# Altium schematic symbol library 28Pins_Project.SchLib: 38 symbols (part 1 of 2)
Pins are listed as number, name and electrical type; pins without a type are passive.

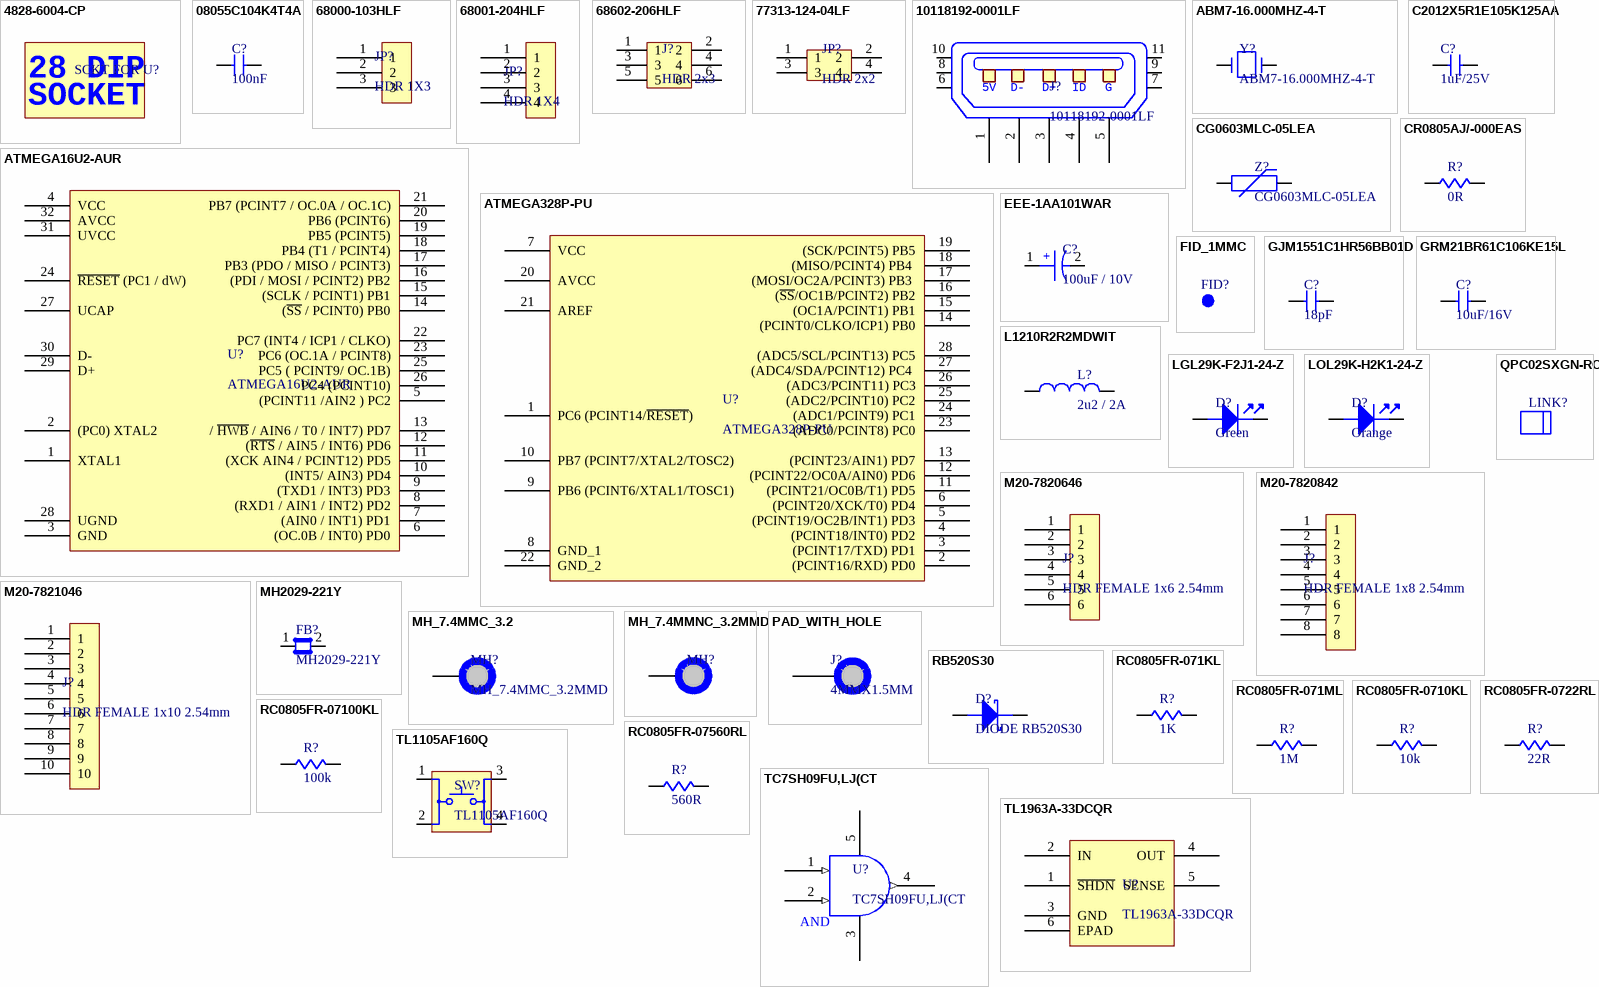
[diagram p0: symbols 4828-6004-CP to TL1963A-33DCQR]

## 4828-6004-CP
designator SCKT FOR U?, comment 28-DIP Socket  (value not drawn)
Conn DIP Socket SKT 28 POS 2.54mm Solder ST Thru-Hole; Manufacturer: 3M; Manufacturer Part Number: 4828-6004-CP; Number of Contacts: 28; Gender: Female; Current Rating: 1A; Voltage Rating (AC): 100V; Insulation Resistance: 5GR; Row Spacing: 15.24mm; Supplier 1: Digi-Key; Supplier Part Number 1: 3M5481-ND; RoHS: Yes; Category: IC and Component Sockets; Stock 1: 2128; Pricing 1: 1=0.84000, 10=0.74300, 25=0.69920, 50=0.67000, 100=0.64080, 250=0.58256, 500=0.52432, 1000=0.46605, 2500=0.42236 (USD); Mount: Through Hole; Contact Material: Bronze; Contact Plating: Tin,Nickel; Housing Material: Polyester; Insulation Material: Polyester; Min Operating Temperature: -25°C; Max Operating Temperature: 85°C; Packaging: Rail/Tube; Number of Rows: 2; Termination: Solder; Orientation: Straight; Package Quantity: 14; Number of Positions: 28; Connector Type: DIP; Series: 4800; Contact Type: Type D; Length: 35.43mm; Width: 17.78mm; Pitch: 2.54mm; Depth: 17.78mm; Radiation Hardening: No; Lead Free: Lead Free; Flammability Rating: UL94 V-0; ComponentLink1URL: https://datasheet.ciiva.com/15188/getdatasheetpartid-335067-15188348.pdf?src-supplier=Verical; ComponentLink1Description: https://datasheet.ciiva.com/15188/getdatasheetpartid-335067-15188348.pdf?src-supplier=Verical; ComponentLink2URL: https://datasheet.ciiva.com/768/ts1099-768368.pdf?src-supplier=Digi-Key; ComponentLink2Description: https://datasheet.ciiva.com/768/ts1099-768368.pdf?src-supplier=Digi-Key; ComponentLink3URL: https://datasheet.ciiva.com/8006/ts1099-8006727.pdf?src-supplier=Element14; ComponentLink3Description: https://datasheet.ciiva.com/8006/ts1099-8006727.pdf?src-supplier=Element14
footprint 28_DIP_7.62MM_SOCKET
text: 28 DIP; SOCKET

## 08055C104K4T4A
designator C?, comment 100nF
CAPACITOR CERAMIC, 0.1UF, 50V, X7R, 10%, 0805; Capacitance:0.1µF; Capacitance Tolerance:± 10%; Capacitor Case Style:0805 [2012 Metric]; Capacitor Dielectric Type:Ceramic; Capacitor Mounting:SMD; Capacitor Terminals:SMD; No. of Pins:2;RoHS Compliant: Yes; Manufacturer: Kyocera AVX; Manufacturer Part Number: 08055C104K4T4A; Supplier 1: Digi-Key; Supplier Part Number 1: 478-10546-1-ND; RoHS: Yes; Category: Ceramic Capacitors; Stock 1: 21932; Pricing 1: 1=0.17000, 10=0.12300, 50=0.06980, 100=0.05790, 500=0.04060, 1000=0.03361, 2500=0.03128, 5000=0.02862 (USD); Mount: Surface Mount; Case/Package: 0805; Number of Pins: 2; Case Code (Imperial): 0805; Case Code (Metric): 2012; Dielectric Material: Ceramic; Min Operating Temperature: -55°C; Max Operating Temperature: 125°C; Capacitance: 100nF; Packaging: Tape and Reel; Tolerance: 10%; Package Quantity: 20000; Voltage Rating: 50V; Voltage Rating (DC): 50V; Dielectric: X7R; Termination: SMD/SMT; Construction: Flat; Length: 2.01mm; Width: 1.25mm; Height: 0.94mm; Thickness: 0.037inch; Depth: 1.25mm; Ratings: AEC-Q200; Radiation Hardening: No; Lead Free: Lead Free; RoHS Compliant: Yes; ComponentLink1URL: https://datasheet.ciiva.com/26904/getdatasheetpartid-74229-26904224.pdf?src-supplier=Verical; ComponentLink1Description: https://datasheet.ciiva.com/26904/getdatasheetpartid-74229-26904224.pdf?src-supplier=Verical; ComponentLink2URL: https://datasheet.ciiva.com/207/cauto-207368.pdf?src-supplier=Digi-Key; ComponentLink2Description: https://datasheet.ciiva.com/207/cauto-207368.pdf?src-supplier=Digi-Key; ComponentLink3URL: https://datasheet.ciiva.com/5415/cauto-5415815.pdf?src-supplier=Mouser; ComponentLink3Description: https://datasheet.ciiva.com/5415/cauto-5415815.pdf?src-supplier=Mouser; ComponentLink4URL: https://datasheet.ciiva.com/16326/cauto-16326439.pdf?src-supplier=Future+Electronics; ComponentLink4Description: https://datasheet.ciiva.com/16326/cauto-16326439.pdf?src-supplier=Future+Electronics; ComponentLink5URL: https://datasheet.ciiva.com/16623/cauto-16623483.pdf?src-supplier=Avnet+Europe; ComponentLink5Description: https://datasheet.ciiva.com/16623/cauto-16623483.pdf?src-supplier=Avnet+Europe
footprint C0805
pins: 1, 2

## 68000-103HLF
designator JP?, comment HDR 1X3
CONN HEADER 3POS 0.1" PITCH AMPHENOL ICC - 68000-103HLF, FCI BergStik II 68000 Series; Supplier 1: Digi-Key; Supplier Part Number 1: 609-3461-ND; Manufacturer: Amphenol ICC; Manufacturer Part Number: 68000-103HLF; RoHS: Yes; Category: Headers and Wire Housings; Stock 1: 52107; Pricing 1: 1=0.33000, 10=0.31000, 100=0.21700, 500=0.18602, 1000=0.15501, 5000=0.13287, 10000=0.12401 (USD); RoHS Compliant: Yes; ComponentLink1URL: http://www.farnell.com/cad/1914865.pdf?src-supplier=Farnell; ComponentLink1Description: http://www.farnell.com/cad/1914865.pdf?src-supplier=Farnell; ComponentLink2URL: http://www.farnell.com/cad/1914865.pdf?src-supplier=Element14; ComponentLink2Description: http://www.farnell.com/cad/1914865.pdf?src-supplier=Element14; ComponentLink3URL: http://www.farnell.com/cad/1914865.pdf?src-supplier=Newark; ComponentLink3Description: http://www.farnell.com/cad/1914865.pdf?src-supplier=Newark; ComponentLink4URL: https://cdn.amphenol-icc.com/media/wysiwyg/files/drawing/68000.pdf?src-supplier=Digi-Key; ComponentLink4Description: https://cdn.amphenol-icc.com/media/wysiwyg/files/drawing/68000.pdf?src-supplier=Digi-Key
footprint HDR1X3_2.54MM
pins: 1, 2, 3

## 68001-204HLF
designator JP?, comment HDR 1X4
CONN HEADER 4 POS 2.54mm Solder ST Thru-Hole Bag; Manufacturer: ICC; Manufacturer Part Number: 68001-204HLF; Supplier 1: Digi-Key; Supplier Part Number 1: 609-3402-ND; RoHS: No; Category: Headers and Wire Housings; Stock 1: 1836; Pricing 1: 1=0.42000, 10=0.39800, 100=0.27890, 500=0.23904, 1000=0.19920, 5000=0.17074, 10000=0.15936 (USD)
footprint HDR_1x4_2.54mm
pins: 1, 2, 3, 4

## 68602-206HLF
designator J?, comment HDR 2x3
AMPHENOL FCI   68602-206HLF   BOARD TO BOARD, HEADER, 6 POSITION, 2ROW; Manufacturer: Amphenol ICC / FCI; Number of Contacts: 6; Current Rating: 3A; Voltage Rating: 1.5kV; Insulation Resistance: 5GR; Gender: Male; Connector Type: Male Pin; Pitch: 2.54mm; Contact Post Length: 3.81mm; Row Spacing: 0.1inch; Supplier 1: Digi-Key; Supplier Part Number 1: 609-3370-ND; Manufacturer Part Number: 68602-206HLF; RoHS: Yes; Category: Headers and Wire Housings; Stock 1: 3266; Pricing 1: 1=0.50000, 10=0.46800, 100=0.35890, 500=0.31208, 1000=0.25747, 5000=0.22627, 10000=0.21066 (USD); Mount: Through Hole; Contact Plating: Gold,GXT; Contact Material: Bronze; Color: Black; Housing Color: Black; Housing Material: Thermoplastic; Min Operating Temperature: -65°C; Max Operating Temperature: 125°C; Number of Rows: 2; Termination: Solder; Contact Gender: Male; Package Quantity: 100; Packaging: Bulk; Number of Positions: 6; Max Voltage Rating (AC): 1.5kV; Orientation: Straight; Series: BERGSTIK® II, MezzSelect™, Basics+; Contact Type: Male Pin; Length: 7.62mm; Contact Mating Length: 0.23inch; Depth: 4.83mm; Radiation Hardening: No; REACH SVHC: No SVHC; Flammability Rating: UL94 V-0; ComponentLink1URL: https://datasheet.ciiva.com/46393/1876884-46393069.pdf?src-supplier=Element14; ComponentLink1Description: https://datasheet.ciiva.com/46393/1876884-46393069.pdf?src-supplier=Element14; ComponentLink2URL: https://datasheet.ciiva.com/728/67996-728909.pdf?src-supplier=Digi-Key; ComponentLink2Description: https://datasheet.ciiva.com/728/67996-728909.pdf?src-supplier=Digi-Key; ComponentLink3URL: https://datasheet.ciiva.com/9465/67996-9465932.pdf?src-supplier=Avnet; ComponentLink3Description: https://datasheet.ciiva.com/9465/67996-9465932.pdf?src-supplier=Avnet
footprint HDR2X3_2.54MM
pins: 1, 2, 3, 4, 5, 6

## 77313-124-04LF
designator JP?, comment HDR 2x2
Manufacturer: AMPHENOL ICC (FCI); Manufacturer Part Number: 77313-124-04LF; Supplier 1: Digi-Key; Supplier Part Number 1: 609-77313-124-04LF-ND; RoHS: No; Stock 1: 986; Pricing 1: 1=0.33000, 10=0.31100, 100=0.21780, 500=0.18664, 1000=0.15554, 5000=0.13332, 10000=0.12443 (USD)
footprint HDR2X2_2.54MM
pins: 1, 2, 3, 4

## 10118192-0001LF
designator J?
CONN USB MICRO B RECPT SMT R/A; Manufacturer: Amphenol ICC / FCI; Supplier 1: Digi-Key; Supplier Part Number 1: 609-4613-1-ND; Manufacturer Part Number: 10118192-0001LF; RoHS: No; Stock 1: 92561; Pricing 1: 1=0.44000, 10=0.41000, 25=0.36920, 50=0.32820, 100=0.31450, 250=0.28720, 500=0.27350 (USD); ComponentLink1URL: http://components.arrow.com/part/dataview/0323_04107371?src-supplier=Arrow+Europe; ComponentLink1Description: http://components.arrow.com/part/dataview/0323_04107371?src-supplier=Arrow+Europe; ComponentLink2URL: http://uk.rs-online.com/webdocs/1450/0900766b814507ee.pdf?src-supplier=RSComponents; ComponentLink2Description: http://uk.rs-online.com/webdocs/1450/0900766b814507ee.pdf?src-supplier=RSComponents; ComponentLink3URL: https://cdn.amphenol-icc.com/media/wysiwyg/files/documentation/datasheet/inputoutput/io_usb_micro.pdf?src-supplier=Avnet; ComponentLink3Description: https://cdn.amphenol-icc.com/media/wysiwyg/files/documentation/datasheet/inputoutput/io_usb_micro.pdf?src-supplier=Avnet; ComponentLink4URL: https://cdn.amphenol-icc.com/media/wysiwyg/files/documentation/datasheet/inputoutput/io_usb_micro.pdf?src-supplier=Arrow+Electronics; ComponentLink4Description: https://cdn.amphenol-icc.com/media/wysiwyg/files/documentation/datasheet/inputoutput/io_usb_micro.pdf?src-supplier=Arrow+Electronics; ComponentLink5URL: https://cdn.amphenol-icc.com/media/wysiwyg/files/documentation/datasheet/inputoutput/io_usb_micro.pdf?src-supplier=Verical; ComponentLink5Description: https://cdn.amphenol-icc.com/media/wysiwyg/files/documentation/datasheet/inputoutput/io_usb_micro.pdf?src-supplier=Verical; ComponentLink6URL: http://portal.fciconnect.com/Comergent//fci/drawing/10118192.pdf?src-supplier=Avnet+Asia; ComponentLink6Description: http://portal.fciconnect.com/Comergent//fci/drawing/10118192.pdf?src-supplier=Avnet+Asia; ComponentLink7URL: https://cdn.amphenol-icc.com/media/wysiwyg/files/documentation/datasheet/inputoutput/io_usb_micro.pdf?src-supplier=Allied+Electronics; ComponentLink7Description: https://cdn.amphenol-icc.com/media/wysiwyg/files/documentation/datasheet/inputoutput/io_usb_micro.pdf?src-supplier=Allied+Electronics; ComponentLink8URL: http://www.farnell.com/datasheets/2366786.pdf?src-supplier=Newark; ComponentLink8Description: http://www.farnell.com/datasheets/2366786.pdf?src-supplier=Newark; ComponentLink9URL: https://cdn.amphenol-icc.com/media/wysiwyg/files/documentation/datasheet/inputoutput/io_usb_micro.pdf?src-supplier=Mouser; ComponentLink9Description: https://cdn.amphenol-icc.com/media/wysiwyg/files/documentation/datasheet/inputoutput/io_usb_micro.pdf?src-supplier=Mouser; ComponentLink10URL: http://www.amphenol-icc.com/media/wysiwyg/files/drawing/10118192.pdf?src-supplier=Digi-Key; ComponentLink10Description: http://www.amphenol-icc.com/media/wysiwyg/files/drawing/10118192.pdf?src-supplier=Digi-Key; ComponentLink11URL: http://www.farnell.com/cad/1935767.pdf?src-supplier=Element14; ComponentLink11Description: http://www.farnell.com/cad/1935767.pdf?src-supplier=Element14; ComponentLink12URL: http://www.farnell.com/datasheets/2366786.pdf?src-supplier=Farnell; ComponentLink12Description: http://www.farnell.com/datasheets/2366786.pdf?src-supplier=Farnell; ComponentLink13URL: https://cdn.amphenol-icc.com/media/wysiwyg/files/documentation/datasheet/inputoutput/io_usb_micro.pdf?src-supplier=TME; ComponentLink13Description: https://cdn.amphenol-icc.com/media/wysiwyg/files/documentation/datasheet/inputoutput/io_usb_micro.pdf?src-supplier=TME; ComponentLink14URL: https://cdn.amphenol-icc.com/media/wysiwyg/files/documentation/datasheet/inputoutput/io_usb_micro.pdf?src-supplier=TTI; ComponentLink14Description: https://cdn.amphenol-icc.com/media/wysiwyg/files/documentation/datasheet/inputoutput/io_usb_micro.pdf?src-supplier=TTI; ComponentLink15URL: https://cdn.amphenol-icc.com/media/wysiwyg/files/documentation/datasheet/inputoutput/io_usb_micro.pdf?src-supplier=NAC+Semi; ComponentLink15Description: https://cdn.amphenol-icc.com/media/wysiwyg/files/documentation/datasheet/inputoutput/io_usb_micro.pdf?src-supplier=NAC+Semi; ComponentLink16URL: https://cdn.amphenol-icc.com/media/wysiwyg/files/documentation/datasheet/inputoutput/io_usb_micro.pdf?src-supplier=SOS+electronic; ComponentLink16Description: https://cdn.amphenol-icc.com/media/wysiwyg/files/documentation/datasheet/inputoutput/io_usb_micro.pdf?src-supplier=SOS+electronic; ComponentLink17URL: https://cdn.amphenol-icc.com/media/wysiwyg/files/documentation/datasheet/inputoutput/io_usb_micro.pdf?src-supplier=Freelance+Electronics; ComponentLink17Description: https://cdn.amphenol-icc.com/media/wysiwyg/files/documentation/datasheet/inputoutput/io_usb_micro.pdf?src-supplier=Freelance+Electronics; ComponentLink18URL: https://cdn.amphenol-icc.com/media/wysiwyg/files/documentation/datasheet/inputoutput/io_usb_micro.pdf?src-supplier=Heilind+Electronics; ComponentLink18Description: https://cdn.amphenol-icc.com/media/wysiwyg/files/documentation/datasheet/inputoutput/io_usb_micro.pdf?src-supplier=Heilind+Electronics
footprint 10118192
pins: 1, 2, 3, 4, 5, 6, 7, 8, 9, 10, 11
text: 5V; D-; D+; ID; G

## ABM7-16.000MHZ-4-T
designator Y?
CRYSTAL 16.0000 MHZ; Manufacturer: Abracon; Frequency Tolerance: 30ppm; Load Capacitance: 18pF; Frequency: 16MHz; Frequency Stability: 50ppm; ESR (Equivalent Series Resistance): 50R; Supplier 1: Digi-Key; Supplier Part Number 1: 535-13460-2-ND; Manufacturer Part Number: ABM7-16.000MHZ-4-T; RoHS: Yes; Category: Crystals; Stock 1: 1000; Pricing 1: 1000=0.50400 (USD); Mount: Surface Mount; Case/Package: SMD/SMT; Min Operating Temperature: -10°C; Max Operating Temperature: 60°C; Packaging: Tape and Reel; Length: 0.236inch; Width: 0.138inch; Height: 0.055inch; Lead Free: Lead Free; RoHS Compliant: Yes; REACH SVHC: Yes; ComponentLink1URL: https://datasheet.ciiva.com/16411/abm7-16411039.pdf?src-supplier=Future+Electronics; ComponentLink1Description: https://datasheet.ciiva.com/16411/abm7-16411039.pdf?src-supplier=Future+Electronics
footprint ABM7_v1_BIG
pins: 1, 2

## ATMEGA16U2-AUR
designator U?
IC MCU 8BIT 16KB FLASH 32TQFP; Manufacturer: Microchip / Atmel; Core Architecture: AVR; Frequency: 16MHz; Interface: SPI,USB,USART; Data Bus Width: 8b; RAM Size: 512B; Max Supply Voltage: 5.5V; Min Supply Voltage: 2.7V; Number of Timers/Counters: 2; Number of Programmable I/O: 22; Watchdog Timer: Yes; Supplier 1: Digi-Key; Supplier Part Number 1: ATMEGA16U2-AURCT-ND; Manufacturer Part Number: ATMEGA16U2-AUR; RoHS: Yes; Category: Microcontrollers; Stock 1: 1113; Pricing 1: 1=2.92000, 25=2.67320, 100=2.40900 (USD); Mount: Surface Mount; Case/Package: LQFP; Number of Pins: 32; Contact Plating: Tin,Matte; Min Operating Temperature: -40°C; Max Operating Temperature: 85°C; Package Quantity: 2000; Packaging: Tape and Reel; Memory Type: FLASH; Memory Size: 16KB; Max Frequency: 16MHz; RoHS Compliant: Yes; ComponentLink1URL: https://datasheet.ciiva.com/9234/doc7799-9234702.pdf?src-supplier=Avnet; ComponentLink1Description: https://datasheet.ciiva.com/9234/doc7799-9234702.pdf?src-supplier=Avnet
footprint TQFP32
pins: 1 XTAL1, 2 (PC0) XTAL2, 3 GND, 4 VCC, 5 (PCINT11 /AIN2 ) PC2, 6 (OC.0B / INT0) PD0, 7 (AIN0 / INT1) PD1, 8 (RXD1 / AIN1 / INT2) PD2, 9 (TXD1 / INT3) PD3, 10 (INT5/ AIN3) PD4, 11 (XCK AIN4 / PCINT12) PD5, 12 (~{RTS} / AIN5 / INT6) PD6, 13 / ~{HWB} / AIN6 / T0 / INT7) PD7, 14 (~{SS} / PCINT0) PB0, 15 (SCLK / PCINT1) PB1, 16 (PDI / MOSI / PCINT2) PB2, 17 PB3 (PDO / MISO / PCINT3), 18 PB4 (T1 / PCINT4), 19 PB5 (PCINT5), 20 PB6 (PCINT6), 21 PB7 (PCINT7 / OC.0A / OC.1C), 22 PC7 (INT4 / ICP1 / CLKO), 23 PC6 (OC.1A / PCINT8), 24 ~{RESET} (PC1 / dW), 25 PC5 ( PCINT9/ OC.1B), 26 PC4 (PCINT10), 27 UCAP, 28 UGND, 29 D+, 30 D-, 31 UVCC, 32 AVCC

## ATMEGA328P-PU
designator U?
IC MCU 8BIT 32KB FLASH 28DIP; Manufacturer: Microchip / Atmel; Core Architecture: AVR; RAM Size: 2KB; Number of PWM Channels: 6; Number of Timers/Counters: 3; Min Supply Voltage: 1.8V; Max Supply Voltage: 5.5V; Interface: I2C,SPI,UART,USART,2-Wire; Number of I/Os: 23; Frequency: 20MHz; Oscillator Type: Internal; Data Bus Width: 8b; Number of SPI Channels: 1; Watchdog Timer: Yes; Peripherals: Brown-out Detect/Reset,POR,PWM,WDT; Supplier 1: Digi-Key; Supplier Part Number 1: ATMEGA328P-PU-ND; Manufacturer Part Number: ATMEGA328P-PU; RoHS: Yes; Category: Microcontrollers; Stock 1: 49556; Pricing 1: 1=2.52000, 25=2.31000, 100=2.09000 (USD); Mount: Through Hole; Case/Package: PDIP; Number of Pins: 28; Contact Plating: Tin,Matte; Min Operating Temperature: -40°C; Max Operating Temperature: 85°C; Package Quantity: 14; Series: AVR® ATmega; Number of ADC Channels: 6; Packaging: Rail/Tube; Number of Programmable I/O: 23; Max Frequency: 20MHz; Number of I2C Channels: 1; Memory Type: FLASH; Memory Size: 32KB; Length: 37.4mm; Width: 6.76mm; Height: 3.28mm; Radiation Hardening: No; REACH SVHC: No SVHC; Lead Free: Lead Free; RoHS Compliant: Yes; ComponentLink1URL: https://datasheet.ciiva.com/19457/2139111-19457070.pdf?src-supplier=Jameco; ComponentLink1Description: https://datasheet.ciiva.com/19457/2139111-19457070.pdf?src-supplier=Jameco; ComponentLink2URL: https://datasheet.ciiva.com/1157/1684409-1157696.pdf?src-supplier=Element14; ComponentLink2Description: https://datasheet.ciiva.com/1157/1684409-1157696.pdf?src-supplier=Element14; ComponentLink3URL: https://datasheet.ciiva.com/20168/73-4283-20168380.pdf?src-supplier=Rapid+Electronics; ComponentLink3Description: https://datasheet.ciiva.com/20168/73-4283-20168380.pdf?src-supplier=Rapid+Electronics; ComponentLink4URL: https://datasheet.ciiva.com/29119/155197-da-01-en-microcontr-atmega328p-pu-8bit-pdip-28-29119593.pdf?src-supplier=Conrad; ComponentLink4Description: https://datasheet.ciiva.com/29119/155197-da-01-en-microcontr-atmega328p-pu-8bit-pdip-28-29119593.pdf?src-supplier=Conrad; ComponentLink5URL: https://datasheet.ciiva.com/26818/atmega328p-pu-26818578.pdf?src-supplier=IIIC; ComponentLink5Description: https://datasheet.ciiva.com/26818/atmega328p-pu-26818578.pdf?src-supplier=IIIC; ComponentLink6URL: https://datasheet.ciiva.com/15213/getdatasheetpartid-318533-15213133.pdf?src-supplier=Verical; ComponentLink6Description: https://datasheet.ciiva.com/15213/getdatasheetpartid-318533-15213133.pdf?src-supplier=Verical
footprint DIP28_300mil
pins: 1 PC6 (PCINT14/~{RESET}) , 2 (PCINT16/RXD) PD0, 3 (PCINT17/TXD) PD1, 4 (PCINT18/INT0) PD2, 5 (PCINT19/OC2B/INT1) PD3, 6 (PCINT20/XCK/T0) PD4, 7 VCC, 8 GND_1, 9 PB6 (PCINT6/XTAL1/TOSC1) , 10 PB7 (PCINT7/XTAL2/TOSC2), 11 (PCINT21/OC0B/T1) PD5, 12 (PCINT22/OC0A/AIN0) PD6, 13 (PCINT23/AIN1) PD7, 14 (PCINT0/CLKO/ICP1) PB0, 15 (OC1A/PCINT1) PB1, 16  (~{SS}/OC1B/PCINT2) PB2, 17 (MOSI/OC2A/PCINT3) PB3 , 18 (MISO/PCINT4) PB4 , 19 (SCK/PCINT5) PB5, 20 AVCC, 21 AREF, 22 GND_2, 23 (ADC0/PCINT8) PC0, 24 (ADC1/PCINT9) PC1, 25 (ADC2/PCINT10) PC2, 26 (ADC3/PCINT11) PC3, 27 (ADC4/SDA/PCINT12) PC4 , 28 (ADC5/SCL/PCINT13) PC5

## C2012X5R1E105K125AA
designator C?, comment 1uF/25V
TDK - C2012X5R1E105K125AA - SMD Multilayer Ceramic Capacitor, 1 µF, 25 V, 0805 [2012 Metric], ± 10%, X5R, C Series; Capacitance: 1uF; Voltage Rating: 25V; Supplier 1: Digi-Key; Supplier Part Number 1: 445-1419-1-ND; Manufacturer: TDK; Manufacturer Part Number: C2012X5R1E105K125AA; RoHS: Yes; Category: Ceramic Capacitors; Stock 1: 55; Pricing 1: 1=0.24000, 10=0.16600, 50=0.09940, 100=0.08390, 500=0.05740, 1000=0.05078 (USD); Mount: Surface Mount; Case/Package: 0805; Number of Pins: 2; Case Code (Metric): 2012; Case Code (Imperial): 0805; Dielectric Material: Ceramic; Weight: 0.000194oz; Min Operating Temperature: -55°C; Max Operating Temperature: 85°C; Tolerance: 10%; Packaging: Tape and Reel; Voltage Rating (DC): 25V; Dielectric: X5R; Termination: SMD/SMT; Construction: Flat; Package Quantity: 2000; Resistor Type: Ceramic; Voltage: 25V; Series: C; Length: 2mm; Width: 0.049inch; Height: 1.25mm; Depth: 1.25mm; Thickness: 0.057inch; Radiation Hardening: No; Lead Free: Lead Free; RoHS Compliant: Yes; REACH SVHC: No SVHC; ComponentLink1URL: https://datasheet.ciiva.com/11787/0900766b80c1bb00-11787608.pdf?src-supplier=RSComponents; ComponentLink1Description: https://datasheet.ciiva.com/11787/0900766b80c1bb00-11787608.pdf?src-supplier=RSComponents; ComponentLink2URL: https://datasheet.ciiva.com/28602/1744655-28602171.pdf?src-supplier=Element14; ComponentLink2Description: https://datasheet.ciiva.com/28602/1744655-28602171.pdf?src-supplier=Element14; ComponentLink3URL: https://datasheet.ciiva.com/15192/getdatasheetpartid-726707-15192140.pdf?src-supplier=Verical; ComponentLink3Description: https://datasheet.ciiva.com/15192/getdatasheetpartid-726707-15192140.pdf?src-supplier=Verical; ComponentLink4URL: https://datasheet.ciiva.com/16449/e412-c-16449595.pdf?src-supplier=Future+Electronics; ComponentLink4Description: https://datasheet.ciiva.com/16449/e412-c-16449595.pdf?src-supplier=Future+Electronics
footprint C0805
pins: 1, 2

## CG0603MLC-05LEA
designator Z?
CHIP GUARD; Manufacturer: Bourns; Capacitance: 0.5pF; Operating Supply Voltage: 5V; Number of Channels: 1; Clamping Voltage: 25V; Current Rating: 5nA; Element Configuration: Single; Supplier 1: Digi-Key; Supplier Part Number 1: CG0603MLC-05LEACT-ND; Manufacturer Part Number: CG0603MLC-05LEA; RoHS: Yes; Category: Varistors; Stock 1: 10424; Pricing 1: 1=0.52000, 10=0.40800, 25=0.34400, 100=0.28000, 250=0.23200, 500=0.19200, 1000=0.14400, 2500=0.13200 (USD); Mount: Surface Mount; Case/Package: 0603; Number of Pins: 2; Case Code (Imperial): 0603; Case Code (Metric): 1608; Contact Plating: Tin; Min Operating Temperature: -40°C; Max Operating Temperature: 125°C; Package Quantity: 5000; Voltage Rating (DC): 5V; Packaging: Tape and Reel; Termination: SMD/SMT; Voltage: 5V; Number of Circuits: 1; Max Voltage Rating (DC): 5V; Working Voltage: 5V; Leakage Current: 5nA; Series: ChipGuard®; Length: 1.6mm; Width: 0.8mm; Depth: 0.8mm; Radiation Hardening: No; RoHS Compliant: Yes; ComponentLink1URL: https://datasheet.ciiva.com/4479/mlc-48379-4479520.pdf?src-supplier=Mouser; ComponentLink1Description: https://datasheet.ciiva.com/4479/mlc-48379-4479520.pdf?src-supplier=Mouser; ComponentLink2URL: https://datasheet.ciiva.com/369/mlc-369341.pdf?src-supplier=Digi-Key; ComponentLink2Description: https://datasheet.ciiva.com/369/mlc-369341.pdf?src-supplier=Digi-Key
footprint R0603
pins: 1, 2

## CR0805AJ/-000EAS
designator R?, comment 0R
Res Anti-Sulfured Jumper Thick Film 0805 0 Ohm 1/8W Molded Paper T/R; Manufacturer: Bourns; Manufacturer Part Number: CR0805AJ/-000EAS; Supplier 1: Digi-Key; Supplier Part Number 1: CR0805AJ/-000EASCT-ND; RoHS: Yes; Category: Chip SMD Resistors; Stock 1: 9970; Pricing 1: 1=0.10000, 10=0.06700, 100=0.02710, 1000=0.01219, 2500=0.01058 (USD)
footprint R0805
pins: 1, 2

## EEE-1AA101WAR
designator C?, comment 100uF / 10V
CAP ALUM 100UF 20% 10V SMD; Manufacturer: Panasonic; Manufacturer Part Number: EEE-1AA101WAR; Ripple Current: 50mA; Polarity: Polar; Life (Hours): 1000Hour; Leakage Current: 3uA; Dissipation Factor: 0.3%; Supplier 1: Digi-Key; Supplier Part Number 1: PCE4566CT-ND; RoHS: Yes; Category: Aluminum Electrolytic Capacitors; Stock 1: 1732; Pricing 1: 1=0.40000, 10=0.27900, 50=0.19520, 100=0.16730, 500=0.12550 (USD); Mount: Surface Mount,PCB; Case/Package: Radial; Min Operating Temperature: -40°C; Max Operating Temperature: 85°C; Capacitance: 100uF; Tolerance: 20%; Voltage Rating: 10V; Packaging: Tape and Reel; Package Quantity: 1000; Voltage Rating (DC): 10V; Ripple Current (AC): 50mA; Termination: SMD/SMT; Voltage: 10V; Series: Automotive, AEC-Q200, S; Construction: Cylindrical; Diameter: 5mm; Length: 5.5mm; Height: 5.4mm; Height - Seated (Max): 0.213inch; Lead Pitch: 1.5mm; Radiation Hardening: No; REACH SVHC: No SVHC; RoHS Compliant: Yes; ComponentLink1URL: https://datasheet.ciiva.com/2985/aba0000ce115-2985041.pdf?src-supplier=Avnet; ComponentLink1Description: https://datasheet.ciiva.com/2985/aba0000ce115-2985041.pdf?src-supplier=Avnet; ComponentLink2URL: https://datasheet.ciiva.com/43470/1790637-43470622.pdf?src-supplier=Farnell; ComponentLink2Description: https://datasheet.ciiva.com/43470/1790637-43470622.pdf?src-supplier=Farnell; ComponentLink3URL: https://datasheet.ciiva.com/31414/1790637-31414630.pdf?src-supplier=Farnell; ComponentLink3Description: https://datasheet.ciiva.com/31414/1790637-31414630.pdf?src-supplier=Farnell; ComponentLink4URL: https://datasheet.ciiva.com/46374/1790637-46374348.pdf?src-supplier=Element14; ComponentLink4Description: https://datasheet.ciiva.com/46374/1790637-46374348.pdf?src-supplier=Element14; ComponentLink5URL: https://datasheet.ciiva.com/46378/1790637-46378265.pdf?src-supplier=Element14; ComponentLink5Description: https://datasheet.ciiva.com/46378/1790637-46378265.pdf?src-supplier=Element14; ComponentLink6URL: https://datasheet.ciiva.com/14604/70255709-14604430.pdf?src-supplier=Allied+Electronics; ComponentLink6Description: https://datasheet.ciiva.com/14604/70255709-14604430.pdf?src-supplier=Allied+Electronics
footprint C_ALU_C_SIZE
pins: 1, 2
text: +

## FID_1MMC
designator FID?, comment Fiducial 40mil Diameter 120mil solder mask  (value not drawn)  (no BOM)
footprint FID_40X120D

## GJM1551C1HR56BB01D
designator C?, comment 18pF
CAP CER 18pF; Manufacturer: Murata; Manufacturer Part Number: GJM1551C1HR56BB01D; Supplier 1: Digi-Key; Supplier Part Number 1: 399-C0805C180J5HAC7800CT-ND; RoHS: Yes; Stock 1: 10868; Pricing 1: 1=0.11000, 10=0.08300, 50=0.04560, 100=0.03720, 500=0.02656, 1000=0.02087 (USD)
footprint C0805
pins: 1, 2

## GRM21BR61C106KE15L
designator C?, comment 10uF/16V
CAP CER 10UF 16V X5R 0805; Manufacturer: Murata; Manufacturer Part Number: GRM21BR61C106KE15L; Material: Ceramic; Tolerance: 10%; Supplier 1: Digi-Key; Supplier Part Number 1: 490-3886-1-ND; RoHS: Yes; Category: Ceramic Capacitors; Pricing 1: 1=0.19000, 10=0.12900, 50=0.07760, 100=0.06560, 500=0.04484, 1000=0.03968 (USD); Mount: Surface Mount; Case/Package: 0805; Case Code (Imperial): 0805; Case Code (Metric): 2012; Min Operating Temperature: -55°C; Max Operating Temperature: 85°C; Packaging: Tape and Reel; Capacitance: 10uF; Voltage Rating: 16V; Voltage Rating (DC): 16V; Package Quantity: 1; Dielectric: X5R; Termination: SMD/SMT; Voltage: 16V; Series: GRM; Construction: Flat; Length: 2mm; Width: 1.25mm; Height: 1.25mm; Depth: 1.25mm; Thickness: 0.053inch; Radiation Hardening: No; REACH SVHC: No SVHC; RoHS Compliant: Yes; Lead Free: Lead Free; ComponentLink1URL: https://datasheet.ciiva.com/2989/product-2989696.pdf?src-supplier=Avnet; ComponentLink1Description: https://datasheet.ciiva.com/2989/product-2989696.pdf?src-supplier=Avnet; ComponentLink2URL: https://datasheet.ciiva.com/3777/1956grm21br61c106ke1523-3777137.pdf?src-supplier=Arrow+Electronics; ComponentLink2Description: https://datasheet.ciiva.com/3777/1956grm21br61c106ke1523-3777137.pdf?src-supplier=Arrow+Electronics; ComponentLink3URL: https://datasheet.ciiva.com/7719/1747468-7719090.pdf?src-supplier=Element14; ComponentLink3Description: https://datasheet.ciiva.com/7719/1747468-7719090.pdf?src-supplier=Element14; ComponentLink4URL: https://datasheet.ciiva.com/23628/460993-23628598.pdf?src-supplier=Newark; ComponentLink4Description: https://datasheet.ciiva.com/23628/460993-23628598.pdf?src-supplier=Newark; ComponentLink5URL: https://datasheet.ciiva.com/29199/454607-da-01-en-vs-kondensator-0805-29199611.pdf?src-supplier=Conrad; ComponentLink5Description: https://datasheet.ciiva.com/29199/454607-da-01-en-vs-kondensator-0805-29199611.pdf?src-supplier=Conrad; ComponentLink6URL: https://datasheet.ciiva.com/29202/450891-da-01-de-vs-chip-kond-0805-10-0-uf-10pr-16-0v-x5r-29202696.pdf?src-supplier=Conrad; ComponentLink6Description: https://datasheet.ciiva.com/29202/450891-da-01-de-vs-chip-kond-0805-10-0-uf-10pr-16-0v-x5r-29202696.pdf?src-supplier=Conrad; ComponentLink7URL: https://datasheet.ciiva.com/137/partnumbering-e-01-137917.pdf?src-supplier=Digi-Key; ComponentLink7Description: https://datasheet.ciiva.com/137/partnumbering-e-01-137917.pdf?src-supplier=Digi-Key; ComponentLink8URL: https://datasheet.ciiva.com/137/partnumbering-e-01-137918.pdf?src-supplier=Digi-Key; ComponentLink8Description: https://datasheet.ciiva.com/137/partnumbering-e-01-137918.pdf?src-supplier=Digi-Key; ComponentLink9URL: https://datasheet.ciiva.com/137/partnumbering-e-01-137919.pdf?src-supplier=Digi-Key; ComponentLink9Description: https://datasheet.ciiva.com/137/partnumbering-e-01-137919.pdf?src-supplier=Digi-Key; ComponentLink10URL: https://datasheet.ciiva.com/2989/product-2989697.pdf?src-supplier=Avnet; ComponentLink10Description: https://datasheet.ciiva.com/2989/product-2989697.pdf?src-supplier=Avnet
footprint C0805
pins: 1, 2

## L1210R2R2MDWIT
designator L?, comment 2u2 / 2A
INDUCTOR  L1210R2R2MDWIT KEMET; Core Material: Ferrite; Tolerance: 20%; Inductance: 2.2uH; Shielding: Unshielded; Self Resonant Frequency: 190MHz; DC Resistance (DCR): 80mR; Test Frequency: 100kHz; DC Current: 1.13A; Supplier 1: Digi-Key; Supplier Part Number 1: 399-9598-1-ND; Manufacturer: KEMET; Manufacturer Part Number: L1210R2R2MDWIT; RoHS: Yes; Category: Fixed Inductors; Stock 1: 11603; Pricing 1: 1=0.50000, 10=0.43700, 25=0.40600, 50=0.34360, 100=0.31240, 250=0.29364, 500=0.26240 (USD); Mount: Surface Mount; Case/Package: 1210; Case Code (Metric): 3225; Case Code (Imperial): 1210; Min Operating Temperature: -40°C; Max Operating Temperature: 105°C; Max DC Current: 2A; Package Quantity: 1000; Current Rating: 2A; Packaging: Tape and Reel; Inductance Tolerance: 20%; Resistor Type: Wirewound,Ceramic; Termination: SMD/SMT; Series: L-DWI; Length: 0.126inch; Width: 0.098inch; Height: 2.5mm; Height - Seated (Max): 0.106inch; Depth: 2.7mm; Radiation Hardening: No; REACH SVHC: No SVHC; Military Standard: Not; RoHS Compliant: Yes; ComponentLink1URL: https://datasheet.ciiva.com/8512/f3115-8512543.pdf?src-supplier=Avnet; ComponentLink1Description: https://datasheet.ciiva.com/8512/f3115-8512543.pdf?src-supplier=Avnet; ComponentLink2URL: https://datasheet.ciiva.com/6691/f3115-6691487.pdf?src-supplier=Digi-Key; ComponentLink2Description: https://datasheet.ciiva.com/6691/f3115-6691487.pdf?src-supplier=Digi-Key; ComponentLink3URL: https://datasheet.ciiva.com/4957/f3115-4957838.pdf?src-supplier=Mouser; ComponentLink3Description: https://datasheet.ciiva.com/4957/f3115-4957838.pdf?src-supplier=Mouser; ComponentLink4URL: https://datasheet.ciiva.com/17280/f3115-17280270.pdf?src-supplier=Avnet+Europe; ComponentLink4Description: https://datasheet.ciiva.com/17280/f3115-17280270.pdf?src-supplier=Avnet+Europe; ComponentLink5URL: https://datasheet.ciiva.com/22685/27262-22685038.pdf?src-supplier=Element14; ComponentLink5Description: https://datasheet.ciiva.com/22685/27262-22685038.pdf?src-supplier=Element14
footprint C1210_IND
pins: 1, 2

## LGL29K-F2J1-24-Z
designator D?, comment Green
LED Uni-Color Green 572nm Automotive 2-Pin Chip 0603(1608Metric) T/R; Manufacturer: Osram Opto; Manufacturer Part Number: LGL29K-F2J1-24-Z; Lens Color: White; Forward Current: 20mA; Forward Voltage: 1.7V; Luminous Intensity: 3.5mcd; Viewing Angle: 160°; Lens Style: Flat,Diffused,Colorless,Rectangular; Lens Transparency: Diffused; Test Current: 2mA; Dominant Wavelength: 570nm; Luminous Flux: 0.015lm; Number of LEDs: 1; Lens Size: 0.8mm; Supplier 1: Digi-Key; Supplier Part Number 1: 475-3118-1-ND; RoHS: Yes; Category: Uncategorized; Stock 1: 45756; Mount: Surface Mount; Case/Package: 0603; Number of Pins: 2; Color: Green; Case Code (Metric): 1608; Case Code (Imperial): 0603; Min Operating Temperature: -40°C; Max Operating Temperature: 100°C; Illumination Color: Green; Packaging: Tape and Reel; Package Quantity: 5000; Series: SMARTLED® 0603; Length: 1.7mm; Width: 0.8mm; Height: 0.65mm; Radiation Hardening: No; RoHS Compliant: Yes; ComponentLink1URL: http://components.arrow.com/part/dataview/41971649S9781339N2128?src-supplier=Arrow+Electronics; ComponentLink1Description: http://components.arrow.com/part/dataview/41971649S9781339N2128?src-supplier=Arrow+Electronics; ComponentLink2URL: http://components.arrow.com/part/dataview/0323_02006818?src-supplier=Arrow+Europe; ComponentLink2Description: http://components.arrow.com/part/dataview/0323_02006818?src-supplier=Arrow+Europe; ComponentLink3URL: https://dammedia.osram.info/media/resource/hires/osram-dam-2493945/LG%20L29K.pdf?src-supplier=Digi-Key; ComponentLink3Description: https://dammedia.osram.info/media/resource/hires/osram-dam-2493945/LG%20L29K.pdf?src-supplier=Digi-Key; ComponentLink4URL: http://catalog.osram-os.com/catalogue/catalogue.do;jsessionid=3DE84243E85F820603DAFD5199D8DDA3?act=downloadFile&favOid=020000020000138e000100b6&src-supplier=Avnet; ComponentLink4Description: http://catalog.osram-os.com/catalogue/catalogue.do;jsessionid=3DE84243E85F820603DAFD5199D8DDA3?act=downloadFile&favOid=020000020000138e000100b6&src-supplier=Avnet; ComponentLink5URL: http://catalog.osram-os.com/catalogue/catalogue.do;jsessionid=3DE84243E85F820603DAFD5199D8DDA3?act=downloadFile&favOid=020000020000138e000100b6&src-supplier=Avnet+Europe; ComponentLink5Description: http://catalog.osram-os.com/catalogue/catalogue.do;jsessionid=3DE84243E85F820603DAFD5199D8DDA3?act=downloadFile&favOid=020000020000138e000100b6&src-supplier=Avnet+Europe
footprint LED_0603
pins: 1, 2

## LOL29K-H2K1-24-Z
designator D?, comment Orange
OSRAM - LO L29K-H2K1-24-Z - SMARTLED 0603 ORANGE 55AC2374; Manufacturer: Osram Opto; Lens Color: White; Forward Current: 20mA; Forward Voltage: 2.2V; Luminous Intensity: 9mcd; Viewing Angle: 160°; Lens Style: Flat,Diffused,Colorless,Rectangular; Test Current: 2mA; Dominant Wavelength: 606nm; Luminous Flux: 0.025lm; Number of LEDs: 1; Reverse Voltage: 12V; Lens Transparency: Diffused; Lens Size: 0.8mm; Supplier 1: Digi-Key; Supplier Part Number 1: 475-2740-1-ND; Manufacturer Part Number: LOL29K-H2K1-24-Z; RoHS: Yes; Category: Uncategorized; Stock 1: 35248; Pricing 1: 1=0.460000, 10=0.300000, 100=0.200100, 500=0.138400, 1000=0.115330, 2000=0.103800 (USD); Mount: Surface Mount; Case/Package: 0603; Number of Pins: 2; Color: Orange; Case Code (Metric): 1608; Case Code (Imperial): 0603; Min Operating Temperature: -40°C; Max Operating Temperature: 100°C; Packaging: Tape and Reel; Number of Elements: 1; Series: SmartLED; Illumination Color: Orange; Package Quantity: 5000; Length: 1.3mm; Width: 0.8mm; Height: 0.65mm; Depth: 0.8mm; Radiation Hardening: No; RoHS Compliant: Yes; ComponentLink1URL: https://datasheet.ciiva.com/2112/00077105-0-2112905.pdf?src-supplier=Digi-Key; ComponentLink1Description: https://datasheet.ciiva.com/2112/00077105-0-2112905.pdf?src-supplier=Digi-Key; ComponentLink2URL: https://datasheet.ciiva.com/2112/00077105-0-2112904.pdf?src-supplier=Digi-Key; ComponentLink2Description: https://datasheet.ciiva.com/2112/00077105-0-2112904.pdf?src-supplier=Digi-Key; ComponentLink3URL: https://datasheet.ciiva.com/2112/00077105-0-2112906.pdf?src-supplier=Digi-Key; ComponentLink3Description: https://datasheet.ciiva.com/2112/00077105-0-2112906.pdf?src-supplier=Digi-Key; ComponentLink4URL: https://datasheet.ciiva.com/15198/getdatasheetpartid-693885-15198412.pdf?src-supplier=Verical; ComponentLink4Description: https://datasheet.ciiva.com/15198/getdatasheetpartid-693885-15198412.pdf?src-supplier=Verical
footprint LED_0603
pins: 1, 2

## M20-7820646
designator J?, comment HDR FEMALE 1x6 2.54mm
CONN HEADER 6POS 0.1" PITCH; Manufacturer: Harwin; Manufacturer Part Number: M20-7820646; Number of Contacts: 6; Max Current Rating: 3A; Contact Resistance: 20mR; Connector Type: Receptacle; Supplier 1: Digi-Key; Supplier Part Number 1: 952-1809-ND; RoHS: Yes; Category: Headers and Wire Housings; Stock 1: 1266; Pricing 1: 1=1.02000, 10=0.89900, 100=0.77550, 500=0.63448, 1000=0.56398, 5000=0.49349, 10000=0.46881 (USD); Mount: Through Hole; Case/Package: SIL; Color: Black; Contact Plating: Tin; Contact Material: Bronze; Housing Color: Black; Housing Material: Nylon; Min Operating Temperature: -40°C; Max Operating Temperature: 105°C; Number of Rows: 1; Termination: Solder; Packaging: Rail/Tube; Contact Gender: Female; Package Quantity: 38; Number of Positions: 6; Orientation: Straight; Gender: Female; Series: M20; Contact Type: Female Socket; Length: 15.64mm; Pitch: 2.54mm; Depth: 2.5mm; Radiation Hardening: No; RoHS Compliant: Yes; ComponentLink1URL: http://components.arrow.com/part/dataview/0323_00725884?src-supplier=Arrow+Europe; ComponentLink1Description: http://components.arrow.com/part/dataview/0323_00725884?src-supplier=Arrow+Europe; ComponentLink2URL: https://cdn.harwin.com/pdfs/M20-782.pdf?src-supplier=Farnell; ComponentLink2Description: https://cdn.harwin.com/pdfs/M20-782.pdf?src-supplier=Farnell; ComponentLink3URL: http://www.harwin.com/include/downloads/pdfs/2010PAGE120.PDF?src-supplier=Avnet; ComponentLink3Description: http://www.harwin.com/include/downloads/pdfs/2010PAGE120.PDF?src-supplier=Avnet; ComponentLink4URL: https://cdn.harwin.com/pdfs/M20-782.pdf?src-supplier=Digi-Key; ComponentLink4Description: https://cdn.harwin.com/pdfs/M20-782.pdf?src-supplier=Digi-Key; ComponentLink5URL: https://cdn.harwin.com/pdfs/Harwin_PC_Connectors_M20.pdf?src-supplier=Mouser; ComponentLink5Description: https://cdn.harwin.com/pdfs/Harwin_PC_Connectors_M20.pdf?src-supplier=Mouser; ComponentLink6URL: https://cdn.harwin.com/pdfs/Harwin_PC_Connectors_M20.pdf?src-supplier=Avnet+Europe; ComponentLink6Description: https://cdn.harwin.com/pdfs/Harwin_PC_Connectors_M20.pdf?src-supplier=Avnet+Europe; ComponentLink7URL: https://cdn.harwin.com/pdfs/Harwin_PC_Connectors_M20.pdf?src-supplier=RSComponents; ComponentLink7Description: https://cdn.harwin.com/pdfs/Harwin_PC_Connectors_M20.pdf?src-supplier=RSComponents; ComponentLink8URL: https://cdn.harwin.com/pdfs/M20-782.pdf?src-supplier=Newark; ComponentLink8Description: https://cdn.harwin.com/pdfs/M20-782.pdf?src-supplier=Newark; ComponentLink9URL: https://cdn.harwin.com/pdfs/Harwin_PC_Connectors_M20.pdf?src-supplier=TTI; ComponentLink9Description: https://cdn.harwin.com/pdfs/Harwin_PC_Connectors_M20.pdf?src-supplier=TTI
footprint HDR_FEMALE_1x6_2.54mm - duplicate
pins: 1, 2, 3, 4, 5, 6

## M20-7820842
designator J?, comment HDR FEMALE 1x8 2.54mm
CONN HEADER 8POS 0.1" PITCH; Manufacturer: Harwin; Manufacturer Part Number: M20-7820842; Number of Contacts: 8; Max Current Rating: 3A; Contact Resistance: 20mR; Connector Type: Receptacle; Supplier 1: Digi-Key; Supplier Part Number 1: 952-1823-ND; RoHS: Yes; Category: Headers and Wire Housings; Stock 1: 1049; Pricing 1: 1=1.18000, 10=1.04100, 100=0.89770, 500=0.73448, 1000=0.65286, 5000=0.57126, 10000=0.54269 (USD); Mount: Through Hole; Case/Package: SIL; Contact Plating: Tin,Gold; Color: Black; Contact Material: Bronze; Weight: 0.025397oz; Housing Color: Black; Housing Material: Polyamide; Min Operating Temperature: -40°C; Max Operating Temperature: 105°C; Number of Rows: 1; Termination: Solder; Contact Gender: Female; Package Quantity: 29; Packaging: Rail/Tube; Number of Positions: 8; Orientation: Straight; Gender: Female; Series: M20; Contact Type: Female Socket; Length: 20.72mm; Pitch: 2.54mm; Depth: 2.5mm; Radiation Hardening: No; RoHS Compliant: Yes; ComponentLink1URL: https://datasheet.ciiva.com/9480/m20-782-9480074.pdf?src-supplier=Avnet; ComponentLink1Description: https://datasheet.ciiva.com/9480/m20-782-9480074.pdf?src-supplier=Avnet; ComponentLink2URL: https://datasheet.ciiva.com/16732/m20-782-16732663.pdf?src-supplier=Avnet+Europe; ComponentLink2Description: https://datasheet.ciiva.com/16732/m20-782-16732663.pdf?src-supplier=Avnet+Europe
footprint HDR_FEMALE_1x8_2.54mm
pins: 1, 2, 3, 4, 5, 6, 7, 8

## M20-7821046
designator J?, comment HDR FEMALE 1x10 2.54mm
CONN HEADER 10POS 0.1" PITCH HARWIN - M20-7821046; Number of Contacts: 10; Max Current Rating: 3A; Contact Resistance: 20mR; Mating Cycles: 50; Connector Type: Receptacle; Insulation Resistance: 1MR; Hole Diameter: 0.8mm; Supplier 1: Digi-Key; Supplier Part Number 1: 952-1847-ND; Manufacturer: Harwin; Manufacturer Part Number: M20-7821046; RoHS: Yes; Category: Headers and Wire Housings; Stock 1: 639; Pricing 1: 1=1.29000, 10=1.13300, 100=0.97770, 500=0.79992, 1000=0.71104, 5000=0.62216, 10000=0.59105 (USD); Mount: Through Hole; Case/Package: SIL; Color: Black; Contact Plating: Tin; Contact Material: Bronze; Housing Color: Black; Housing Material: Polyamide; Min Operating Temperature: -40°C; Max Operating Temperature: 105°C; Number of Rows: 1; Termination: Solder; Packaging: Rail/Tube; Contact Gender: Female; Package Quantity: 23; Current Rating: 3A; Number of Positions: 10; Gender: Receptacle; Orientation: Straight; Series: M20; Contact Type: Female Socket; Length: 25.8mm; Pitch: 2.54mm; Lead Pitch: 2.54mm; Depth: 2.5mm; Radiation Hardening: No; REACH SVHC: No SVHC; ComponentLink1URL: https://datasheet.ciiva.com/11753/0900766b80dc1d2b-11753869.pdf?src-supplier=RSComponents; ComponentLink1Description: https://datasheet.ciiva.com/11753/0900766b80dc1d2b-11753869.pdf?src-supplier=RSComponents; ComponentLink2URL: https://datasheet.ciiva.com/26899/getdatasheetpartid-559226-26899379.pdf?src-supplier=Verical; ComponentLink2Description: https://datasheet.ciiva.com/26899/getdatasheetpartid-559226-26899379.pdf?src-supplier=Verical; ComponentLink3URL: https://datasheet.ciiva.com/10151/m20-782-10151366.pdf?src-supplier=Avnet; ComponentLink3Description: https://datasheet.ciiva.com/10151/m20-782-10151366.pdf?src-supplier=Avnet; ComponentLink4URL: https://datasheet.ciiva.com/6785/m20-782-6785605.pdf?src-supplier=Digi-Key; ComponentLink4Description: https://datasheet.ciiva.com/6785/m20-782-6785605.pdf?src-supplier=Digi-Key; ComponentLink5URL: https://datasheet.ciiva.com/16732/m20-782-16732152.pdf?src-supplier=Avnet+Europe; ComponentLink5Description: https://datasheet.ciiva.com/16732/m20-782-16732152.pdf?src-supplier=Avnet+Europe
footprint HDR_FEMALE_1x10_2.54mm
pins: 1, 2, 3, 4, 5, 6, 7, 8, 9, 10

## MH2029-221Y
designator FB?
BEAD FERRITE 220 OHM 2.0A 0805; Manufacturer: Bourns; Tolerance: 25%; Impedance: 220R; Current Rating: 3A; Number of Lines: 1; Max Current Rating: 2A; DC Resistance (DCR): 40mR; Test Frequency: 100MHz; Supplier 1: Digi-Key; Supplier Part Number 1: MH2029-221YCT-ND; Manufacturer Part Number: MH2029-221Y; RoHS: Yes; Category: Ferrite Beads and Chips; Stock 1: 107514; Pricing 1: 1=0.10000, 10=0.07300, 25=0.06600, 50=0.05940, 100=0.04360, 250=0.03168, 500=0.02904, 1000=0.02508 (USD); Mount: Surface Mount; Case/Package: 0805; Core Material: Ferrite; Case Code (Metric): 2012; Case Code (Imperial): 0805; Contact Plating: Tin; Min Operating Temperature: -55°C; Max Operating Temperature: 125°C; Packaging: Tape and Reel; Package Quantity: 1; Max DC Current: 2A; Termination: SMD/SMT; Series: MH; Length: 0.079inch; Width: 0.047inch; Height: 0.043inch; Depth: 1.4mm; REACH SVHC: No SVHC; RoHS Compliant: Yes; ComponentLink1URL: https://datasheet.ciiva.com/4940/mh-69602-4940601.pdf?src-supplier=Mouser; ComponentLink1Description: https://datasheet.ciiva.com/4940/mh-69602-4940601.pdf?src-supplier=Mouser
footprint FB0805
pins: 1, 2

## MH_7.4MMC_3.2
designator MH?, comment MH_7.4MMC_3.2MMD  (no BOM)
Mounting hole 7.4mm diameter, 3.2mm drill
footprint MH_7.4MMD_3.2MMD
pins: 1

## MH_7.4MMNC_3.2MMD
designator MH?  (value not drawn)  (no BOM)
Hole 7.4mm diamter (non copper) 3.2 mm dril NPTH
footprint MH_7.2MMD_4.2MMD_NON_COPPER_NPTH
pins: 1

## PAD_WITH_HOLE
designator J?, comment 4MMX1.5MM  (no BOM)
Pad with a hole 4mm x 1.5mm
footprint PAD_WITH_HOLE_4MMX1.5MM
pins: 1

## QPC02SXGN-RC
designator LINK?, comment LINK  (value not drawn)  (mechanical)
CONN JUMPER SHORTING .100" GOLD; Manufacturer: Sullins; Manufacturer Part Number: QPC02SXGN-RC; Number of Positions: 2; Pitch: 0.1inch; Supplier 1: Digi-Key; Supplier Part Number 1: S9337-ND; RoHS: Yes; Category: Connectors; Stock 1: 471397; Pricing 1: 1=0.10000, 25=0.04400, 50=0.03780, 250=0.03152, 750=0.02835, 1000=0.02646, 12000=0.02016, 24000=0.01827, 48000=0.01820 (USD); Case/Package: 100; Contact Plating: Gold; Package Quantity: 2000; Packaging: Bulk; Height: 0.235inch; Lead Free: Lead Free; ComponentLink1URL: https://datasheet.ciiva.com/767/284-sxgn-11510-767869.pdf?src-supplier=Digi-Key; ComponentLink1Description: https://datasheet.ciiva.com/767/284-sxgn-11510-767869.pdf?src-supplier=Digi-Key

## RB520S30
designator D?, comment DIODE RB520S30
DIODE, SCHOTTKY, 200mA, 30V, SOD-523F FAIRCHILD SEMICONDUCTOR RB520S30; Manufacturer: ON Semiconductor / Fairchild; Forward Voltage: 600mV; Max Reverse Leakage Current: 1uA; Max Forward Surge Current (Ifsm): 1A; Power Dissipation: 200mW; Element Configuration: Single; Supplier 1: Digi-Key; Supplier Part Number 1: 1990-RB520S30CT-ND; Manufacturer Part Number: RB520S30; RoHS: Yes; Category: Schottky Diodes; Stock 1: 1265; Pricing 1: 1=0.25000, 10=0.20700, 100=0.10970, 500=0.07218, 1000=0.04909 (USD); Mount: Surface Mount; Number of Pins: 2; Weight: 0.01g; Min Operating Temperature: -55°C; Max Operating Temperature: 125°C; Packaging: Tape and Reel; Average Rectified Current: 200mA; Max Reverse Voltage (DC): 30V; Forward Current: 200mA; Package Quantity: 8000; Max Repetitive Reverse Voltage (Vrrm): 30V; Max Reverse Current: 1uA; Series: -; Length: 1.3mm; Width: 0.9mm; Height: 0.7mm; Radiation Hardening: No; REACH SVHC: No SVHC; Lead Free: Lead Free; RoHS Compliant: Yes; ComponentLink1URL: https://datasheet.ciiva.com/4714/rb520s30-310176-4714317.pdf?src-supplier=Mouser; ComponentLink1Description: https://datasheet.ciiva.com/4714/rb520s30-310176-4714317.pdf?src-supplier=Mouser; ComponentLink2URL: https://datasheet.ciiva.com/22651/1706530-22651969.pdf?src-supplier=Element14; ComponentLink2Description: https://datasheet.ciiva.com/22651/1706530-22651969.pdf?src-supplier=Element14; ComponentLink3URL: https://datasheet.ciiva.com/916/rb520s30-916875.pdf?src-supplier=Digi-Key; ComponentLink3Description: https://datasheet.ciiva.com/916/rb520s30-916875.pdf?src-supplier=Digi-Key; ComponentLink4URL: https://datasheet.ciiva.com/8300/rb520s30-8300837.pdf?src-supplier=Avnet; ComponentLink4Description: https://datasheet.ciiva.com/8300/rb520s30-8300837.pdf?src-supplier=Avnet
footprint SOD523
pins: 1, 2

## RC0805FR-071KL
designator R?, comment 1K
RES SMD 1K OHM 1% 1/8W 0805; Manufacturer: Yageo; Manufacturer Part Number: RC0805FR-071KL; Resistance: 1kR; Temperature Coefficient: 100ppm/°C; Voltage Rating (DC): 150V; Power Rating: 125mW; Supplier 1: Digi-Key; Supplier Part Number 1: 311-1.00KCRCT-ND; RoHS: Yes; Category: Chip SMD Resistors; Stock 1: 7996583; Pricing 1: 1=0.10000, 10=0.04200, 100=0.01690, 1000=0.00759, 2500=0.00659 (USD); Case/Package: 0805; Number of Pins: 2; Case Code (Metric): 2012; Case Code (Imperial): 0805; Size Code: 0805; Min Operating Temperature: -55°C; Max Operating Temperature: 155°C; Tolerance: 1%; Resistor Type: Thick Film; Packaging: Tape and Reel; Package Quantity: 1; Voltage Rating: 150V; Number of Terminations: 2; Termination: SMD/SMT; Max Power Dissipation: 125mW; Features: Moisture Resistant; Series: RC; Resistance Tolerance: 1%; Construction: Rectangular; Length: 0.079inch; Width: 0.049inch; Height: 0.024inch; Depth: 1.25mm; REACH SVHC: Unknown; Lead Free: Lead Free; RoHS Compliant: Yes; Military Standard: Not; ComponentLink1URL: https://datasheet.ciiva.com/46385/444164-46385020.pdf?src-supplier=Element14; ComponentLink1Description: https://datasheet.ciiva.com/46385/444164-46385020.pdf?src-supplier=Element14; ComponentLink2URL: https://datasheet.ciiva.com/2456/pyu-r-int-thick-7-2456975.pdf?src-supplier=Digi-Key; ComponentLink2Description: https://datasheet.ciiva.com/2456/pyu-r-int-thick-7-2456975.pdf?src-supplier=Digi-Key; ComponentLink3URL: https://datasheet.ciiva.com/2456/pyu-r-int-thick-7-2456976.pdf?src-supplier=Digi-Key; ComponentLink3Description: https://datasheet.ciiva.com/2456/pyu-r-int-thick-7-2456976.pdf?src-supplier=Digi-Key; ComponentLink4URL: https://datasheet.ciiva.com/2456/pyu-r-int-thick-7-2456977.pdf?src-supplier=Digi-Key; ComponentLink4Description: https://datasheet.ciiva.com/2456/pyu-r-int-thick-7-2456977.pdf?src-supplier=Digi-Key; ComponentLink5URL: https://datasheet.ciiva.com/16850/rc0805-16850409.pdf?src-supplier=Future+Electronics; ComponentLink5Description: https://datasheet.ciiva.com/16850/rc0805-16850409.pdf?src-supplier=Future+Electronics; ComponentLink6URL: https://datasheet.ciiva.com/7941/1686128-7941719.pdf?src-supplier=Element14; ComponentLink6Description: https://datasheet.ciiva.com/7941/1686128-7941719.pdf?src-supplier=Element14
footprint R0805
pins: 1, 2